# Altium schematic symbol library Sensors Current Amplifiers.SchLib: 2 symbols
Pins are listed as number, name and electrical type; pins without a type are passive.

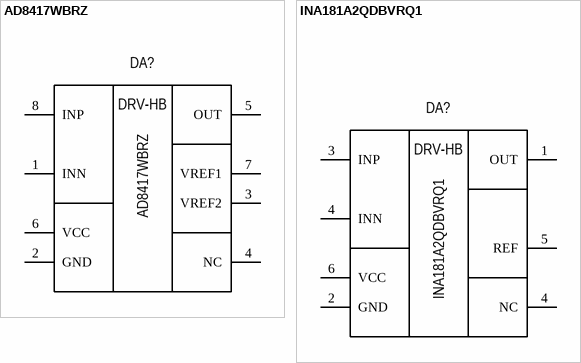
[diagram p0: symbols AD8417WBRZ to INA181A2QDBVRQ1]

## AD8417WBRZ
designator DA?
Current Sense Amplifier; Manufacturer: Analog Devices; Group: Sensors; Dimention: 5.80mm x 4.80mm; Voltage supply: 2.7V - 5.5V; Package: SOIC-8; Part name: AD8417WBRZ; Height: 1.35mm; Mounting type: Surface mount; Operating temperature: -40°C +125°C; Component: Current Sense Amplifier
footprint SOIC-8N
pins: 1 INN "Negative Input", 2 GND "Ground", 3 VREF2 "Reference Input 2", 4 NC "No Connect", 5 OUT "Output", 6 VCC "Supply", 7 VREF1 "Reference Input 1", 8 INP "Positive Input"
text: DRV-HB

## INA181A2QDBVRQ1
designator DA?
Current Sense Amplifier; Manufacturer: Texas Instruments; Group: Sensors; Dimention: 5.05mm x 3.10mm; Voltage supply: 2.7V - 5.5V; Package: SOT-23-6; Part name: INA181A2QDBVRQ1; Height: 1.10mm; Mounting type: Surface mount; Operating temperature: -40°C +125°C; Component: Current Sense Amplifier
footprint SOT-23-6
pins: 1 OUT "Output", 2 GND "Ground", 3 INP "Positive Input", 4 INN "Negative Input", 4 NC "No Connect", 5 REF "Reference Input", 6 VCC "Supply"
text: DRV-HB